# Altium schematic symbol library RX2M.SchLib: 1 symbol
Pins are listed as number, name and electrical type; pins without a type are passive.

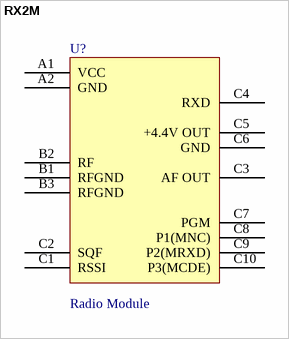
[diagram p0: symbol RX2M]

## RX2M
designator U?, comment Radio Module
pins: A1 VCC, A2 GND, B1 RFGND, B2 RF, B3 RFGND, C1 RSSI (power), C2 SQF, C3 AF OUT, C4 RXD, C5 +4.4V OUT, C6 GND, C7 PGM, C8 P1(MNC), C9 P2(MRXD), C10 P3(MCDE)
1 alternate drawing of the same symbol